# Altium footprint library OLED_0.96.PcbLib: 1 footprints
Each footprint in its own frame and in the unit in brackets; x right, y up, seen from the top. Pads: shape width x height; smd on the part's side, far side on the other; paste and mask are expansions set on the pad; w line width, h text height; cw(c..) or ccw(c..) is an arc to the next point about the centre after c.
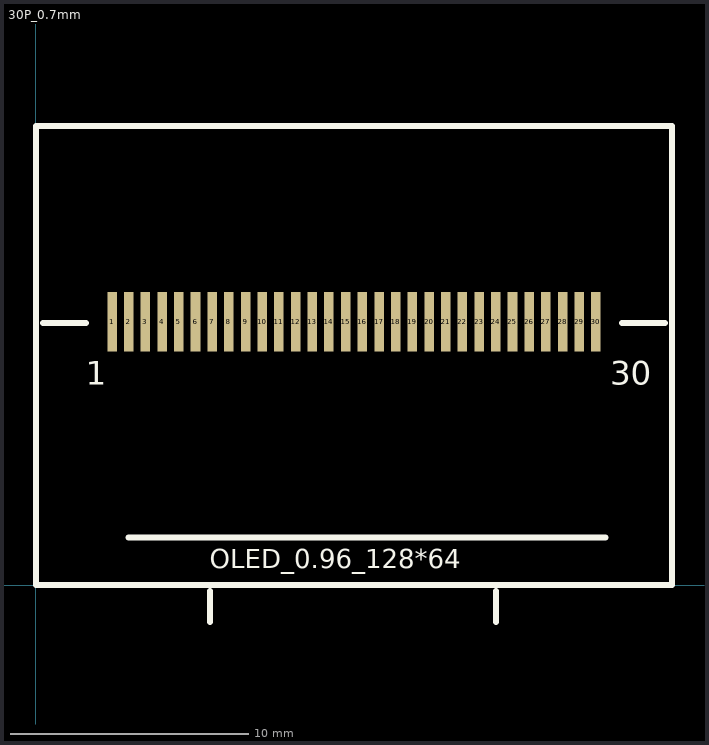
[diagram p0: the footprint, top view; thin cyan lines are the x and y axes]

## 30P_0.7mm [mm] "OLED_SSD1306"
pads (30):
  rect 0.4x2.5 smd: 1(3.2,11.06) 2(3.9,11.06) 3(4.6,11.06) 4(5.3,11.06) 5(6,11.06) 6(6.7,11.06) 7(7.4,11.06) 8(8.1,11.06) 9(8.8,11.06) 10(9.5,11.06) 11(10.2,11.06) 12(10.9,11.06) 13(11.6,11.06) 14(12.3,11.06) 15(13,11.06) 16(13.7,11.06) 17(14.4,11.06) 18(15.1,11.06) 19(15.8,11.06) 20(16.5,11.06) 21(17.2,11.06) 22(17.9,11.06) 23(18.6,11.06) 24(19.3,11.06) 25(20,11.06) 26(20.7,11.06) 27(21.4,11.06) 28(22.1,11.06) 29(22.8,11.06) 30(23.5,11.06)
Top Overlay:
  lines w0.254: 0.3,11 2.1,11 ; 3.9,2 23.9,2 ; 7.3,-1.54 7.3,-0.24 ; 19.3,-1.54 19.3,-0.24 ; 24.6,11 26.4,11 ; 0,0 26.7,0 26.7,19.26 0,19.26 0,0
  text "30" at 24.1,8.4 h1
  text "1" at 2.1,8.4 h1
  text "OLED_0.96_128*64" at 7.3,0.7 h0.8